# Altium integrated library jst.IntLib: 1 symbol
Pins are listed as number, name and electrical type; pins without a type are passive.

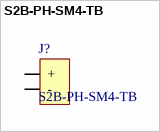
[diagram p0: symbol S2B-PH-SM4-TB]

## S2B-PH-SM4-TB
designator J?
JST Battery Connector
footprint S2B-PH-SM4-TB (2 pin JST connector)
pins: 1 -, 2 +